# EAGLE library part RFM23B (library X893)
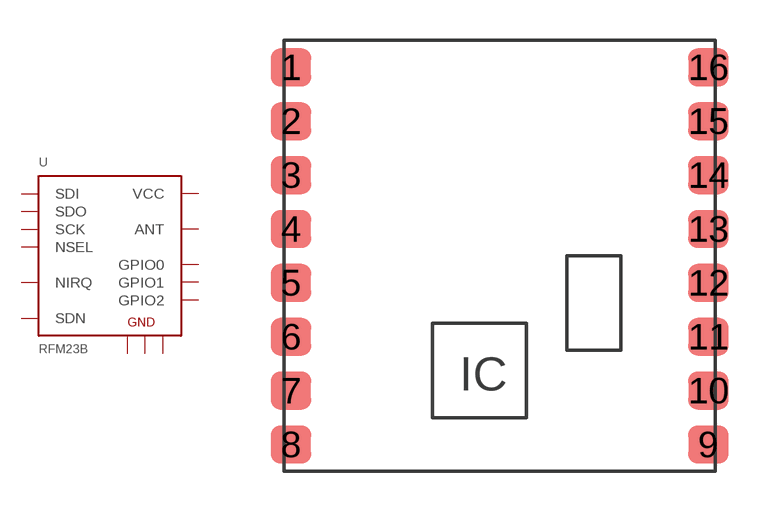
[diagram p91: symbol with the pads of RFM2X; footprint RFM2X]

Designator prefix U

## RFM23B  [RFM2X]
1  ANT  pas
2  GND  sup
3  NC  nc
4  NC  nc
5  VCC  pwr
6  GPIO0
7  GPIO1
8  GPIO2
9  GND  sup
10  SDO
11  SDI  in
12  SCK  in
13  NSEL  in
14  NIRQ
15  SDN  in
16  GND  sup

## Footprint RFM2X (pad centres in mm)
smd 1.5 x 1.4: 1 -7.75,7; 2 -7.75,5; 3 -7.75,3; 4 -7.75,1; 5 -7.75,-1; 6 -7.75,-3; 7 -7.75,-5; 8 -7.75,-7; 9 7.75,-7; 10 7.75,-5; 11 7.75,-3; 12 7.75,-1; 13 7.75,1; 14 7.75,3; 15 7.75,5; 16 7.75,7